# Altium schematic symbol library THVD1426DR.SchLib: 1 symbol
Pins are listed as number, name and electrical type; pins without a type are passive.

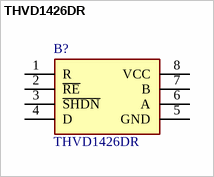
[diagram p0: symbol THVD1426DR]

## THVD1426DR
designator B?
RS-422/RS-485 Interface IC 3.3-V to 5-V 12-Mbps half-duplex RS-485 transceiver auto-direction control &plusmn;12-kV IEC ESD; Manufacturer_Name: Texas Instruments; Geometry.Height: 1.75mm; Mouser Part Number: 595-THVD1426DR; Mouser Price/Stock: https://www.mouser.co.uk/ProductDetail/Texas-Instruments/THVD1426DR?qs=Li%252BoUPsLEnvtMAmClTMmaw%3D%3D; Manufacturer_Part_Number: THVD1426DR; Datasheet Link: https://www.ti.com/jp/lit/ds/symlink/thvd1426.pdf?ts=1676878246969&ref_url=https%253A%252F%252Fwww.ti.com%252Fproduct%252Fja-jp%252FTHVD1426
footprint SOIC127P600X175-8N
pins: 1 R, 2 ~{RE}, 3 ~{SHDN}, 4 D, 5 GND, 6 A, 7 B, 8 VCC